# Altium schematic symbol library 5V_8A.SchLib: 1 symbol
Pins are listed as number, name and electrical type; pins without a type are passive.

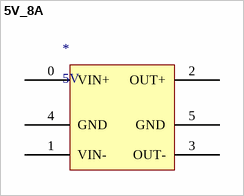
[diagram p0: symbol 5V_8A]

## 5V_8A
designator *, comment 5V
footprint 5V_8A
pins: 0 VIN+, 1 VIN-, 2 OUT+, 3 OUT-, 4 GND, 5 GND